# Altium schematic symbol library Navigation and Locomotion Shield Lib.SchLib: 12 symbols
Pins are listed as number, name and electrical type; pins without a type are passive.

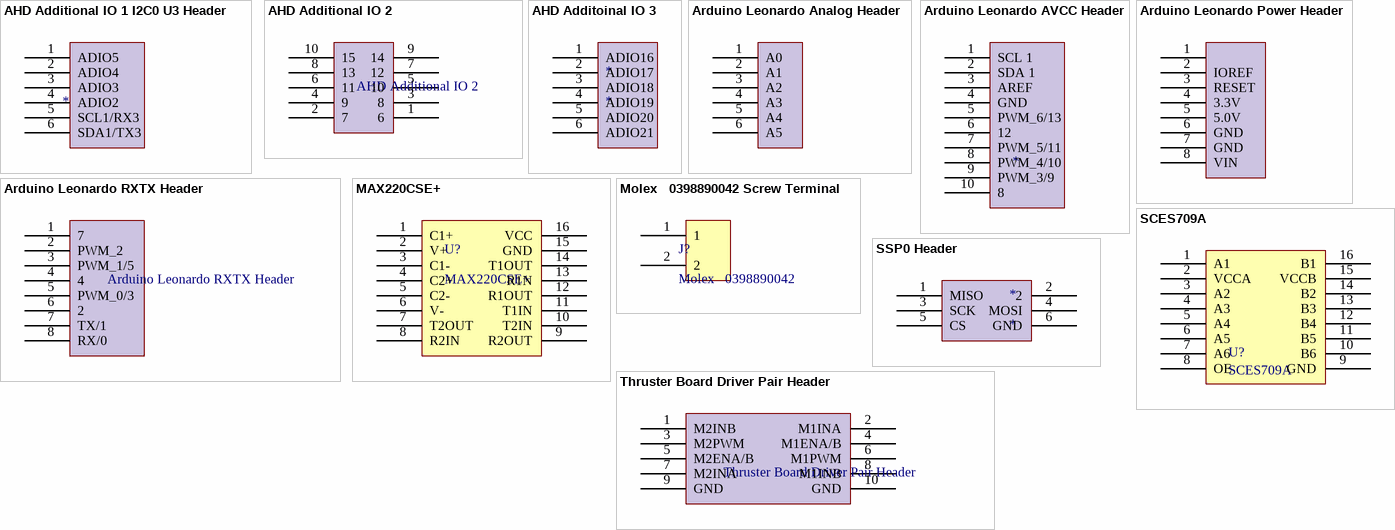
[diagram p0: symbols AHD Additional IO 1 I2C0 U3 Header to Thruster Board Driver Pair Header]

## AHD Additional IO 1 I2C0 U3 Header
designator P?
footprint AHD Additional IO 1 I2C1 U3 (Connector; Header; 6 Position)
pins: 1 ADIO5, 2 ADIO4, 3 ADIO3, 4 ADIO2, 5 SCL1/RX3, 6 SDA1/TX3

## AHD Additional IO 2
designator P?
footprint AHD Additional IO 2 front Digital Header (Connector; Header; 5x2 Position; Right Angle)
pins: 1 6, 2 7, 3 8, 4 9, 5 10, 6 11, 7 12, 8 13, 9 14, 10 15

## AHD Additoinal IO 3
designator *
footprint AHD Additional IO 3 Header (Connector; Header; 6 Position)
pins: 1 ADIO16, 2 ADIO17, 3 ADIO18, 4 ADIO19, 5 ADIO20, 6 ADIO21

## Arduino Leonardo Analog Header
designator P?  (value not drawn)
footprint Arduino Leonardo Analog Header (Connector; Header; 6 Position)
pins: 1 A0, 2 A1, 3 A2, 4 A3, 5 A4, 6 A5

## Arduino Leonardo AVCC Header
designator P?
Arduino Leonardo AREF Header
footprint Arduino Leonardo AVCC Header
pins: 1 SCL 1, 2 SDA 1, 3 AREF, 4 GND, 5 PWM_6/13, 6 12, 7 PWM_5/11, 8 PWM_4/10, 9 PWM_3/9, 10 8

## Arduino Leonardo Power Header
designator P?  (value not drawn)
Arduino Leonardo Power Header
footprint Arduino Leonardo Power Header (Connector; Header; 8 Position)
pins: 1, 2 IOREF, 3 RESET, 4 3.3V, 5 5.0V, 6 GND, 7 GND, 8 VIN

## Arduino Leonardo RXTX Header
designator P?
footprint Arduino Leonardo RXTX PWM Header (Arduino Leonardo Header)
pins: 1 7, 2 PWM_2, 3 PWM_1/5, 4, 5 PWM_0/3, 6 2, 7 TX/1, 8 RX/0

## MAX220CSE+
designator U?
Maxim Integrated RS232 shifter IC
footprint MAX220CES+ (MAX220 RS232 Converter)
pins: 1 C1+, 2 V+, 3 C1-, 4 C2+, 5 C2-, 6 V-, 7 T2OUT, 8 R2IN, 9 R2OUT, 10 T2IN, 11 T1IN, 12 R1OUT, 13 R1N, 14 T1OUT, 15 GND, 16 VCC

## Molex   0398890042 Screw Terminal
designator J?, comment Molex   0398890042
Screw Terminal
footprint PCBComponent_1
pins: 1, 2

## SCES709A
designator U?
footprint SCES709a (TSOP, 16-Leads, Body 5.1x4.5mm (max), Pitch 0.65mm, IPC Medium Density)
pins: 1 A1, 2 VCCA, 3 A2, 4 A3, 5 A4, 6 A5, 7 A6, 8 OE, 9 GND, 10 B6, 11 B5, 12 B4, 13 B3, 14 B2, 15 VCCB, 16 B1

## SSP0 Header
designator *
footprint SSP0 Header (SSP0 is ARM's SPI variant, fully implements SPI SSI and adds new features)
pins: 1 MISO, 2, 3 SCK, 4 MOSI, 5 CS, 6 GND

## Thruster Board Driver Pair Header
designator P?
footprint Thruster Board Drvier Pair Header (Connector; Header; 5x2 Position)
pins: 1 M2INB, 2 M1INA, 3 M2PWM, 4 M1ENA/B, 5 M2ENA/B, 6 M1PWM, 7 M2INA, 8 M1INB, 9 GND, 10 GND